# EAGLE library part TPS63031 (library Eric Navarrete Custom Parts Feb 2019)
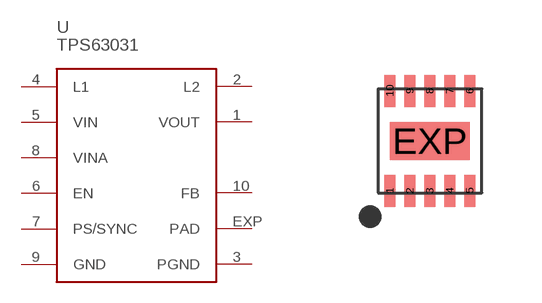
[diagram p22: symbol with the pads of VSON-10(1); footprint VSON-10(1)]

Designator prefix U

## TPS63031  [VSON-10(1)]
1  VOUT
2  L2
3  PGND
4  L1
5  VIN
6  EN
7  PS/SYNC
8  VINA
9  GND
10  FB
EXP  PAD

## Footprint VSON-10(1) (pad centres in mm)
smd 0.28 x 0.8: 1 -1,-1.25; 2 -0.5,-1.25; 3 0,-1.25; 4 0.5,-1.25; 5 1,-1.25; 6 1,1.25; 7 0.5,1.25; 8 0,1.25; 9 -0.5,1.25; 10 -1,1.25
smd 2 x 0.95: EXP 0,0